# Altium footprint library OSC-QSMD3.2x2.5x0.8.PcbLib: 1 footprints
Each footprint in its own frame and in the unit in brackets; x right, y up, seen from the top. Pads: shape width x height; smd on the part's side, far side on the other; paste and mask are expansions set on the pad; w line width, h text height; cw(c..) or ccw(c..) is an arc to the next point about the centre after c.
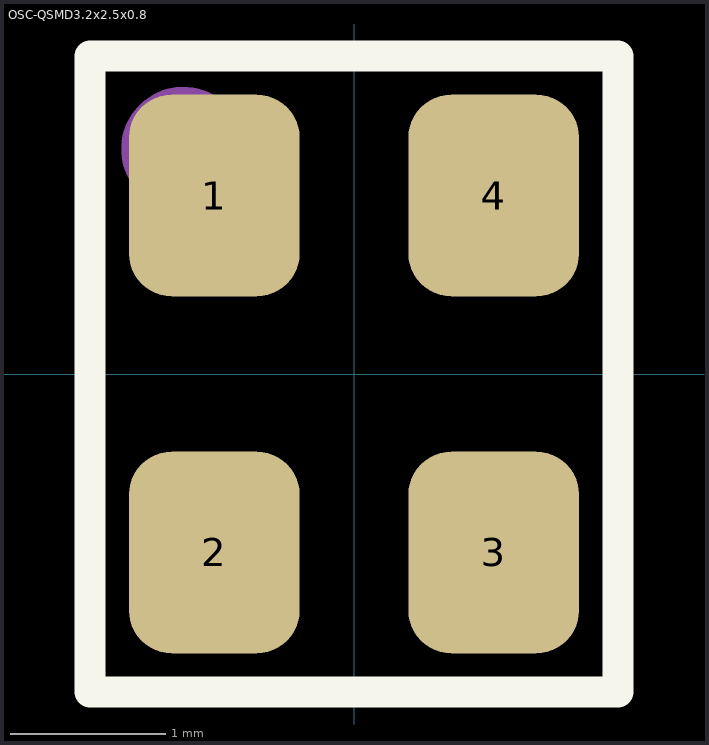
[diagram p0: the footprint, top view; thin cyan lines are the x and y axes]

## OSC-QSMD3.2x2.5x0.8 [mm]
pads (4):
  rrect50% 1.1x1.3 smd paste+0 mask+0.05: 1(-0.9,1.15) 2(-0.9,-1.15) 3(0.9,-1.15) 4(0.9,1.15)
Top Overlay:
  lines w0.2: -1.7,-2.05 1.7,-2.05 1.7,2.05 -1.7,2.05 -1.7,-2.05
Top Assembly:
  circle w0.4: c-1.1,1.45 r0.2
  lines w0.1: -1.675,-2.025 -1.675,2.025 1.675,2.025 1.675,-2.025 -1.675,-2.025
  text "'.Designator'" at -0.975,-0.325 h0.7
3D body "KX7.STEP": height 0.81, standoff 0, extent -1.25,-1.607 1.25,1.607